# EAGLE library part RX4 (library Passives)
Four Resistor
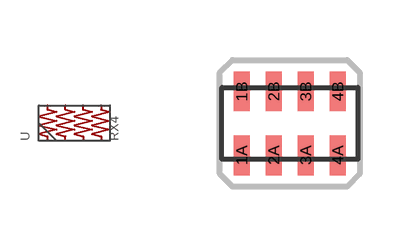
[diagram p0: symbol with the pads of SMD-M2012-X4; footprint SMD-M2012-X4]

Designator prefix -

## RX4-M2012-X4  [SMD-M2012-X4]
1A  1A
1B  1B
2A  2A
2B  2B
3A  3A
3B  3B
4A  4A
4B  4B

## Footprint SMD-M2012-X4 (pad centres in mm)
RAC164 This is a 4X resistor network. The external dimension is a package 1206 3.2mm*1.6mm pad are 1.0mmx0.4mm. pitch is 0.8mm Update 2021-07-24: Pad are too short. Increased Length
smd 0.4 x 1: 1A -1.2,-0.8; 1B -1.2,0.8; 2A -0.4,-0.8; 2B -0.4,0.8; 3A 0.4,-0.8; 3B 0.4,0.8; 4A 1.2,-0.8; 4B 1.2,0.8